# Altium footprint library PCB方案验证板  12V5A 60Wascii.PcbLib: 29 footprints (part 1 of 2)
Each footprint in its own frame and in the unit in brackets; x right, y up, seen from the top. Pads: shape width x height; smd on the part's side, far side on the other; paste and mask are expansions set on the pad; w line width, h text height; cw(c..) or ccw(c..) is an arc to the next point about the centre after c.
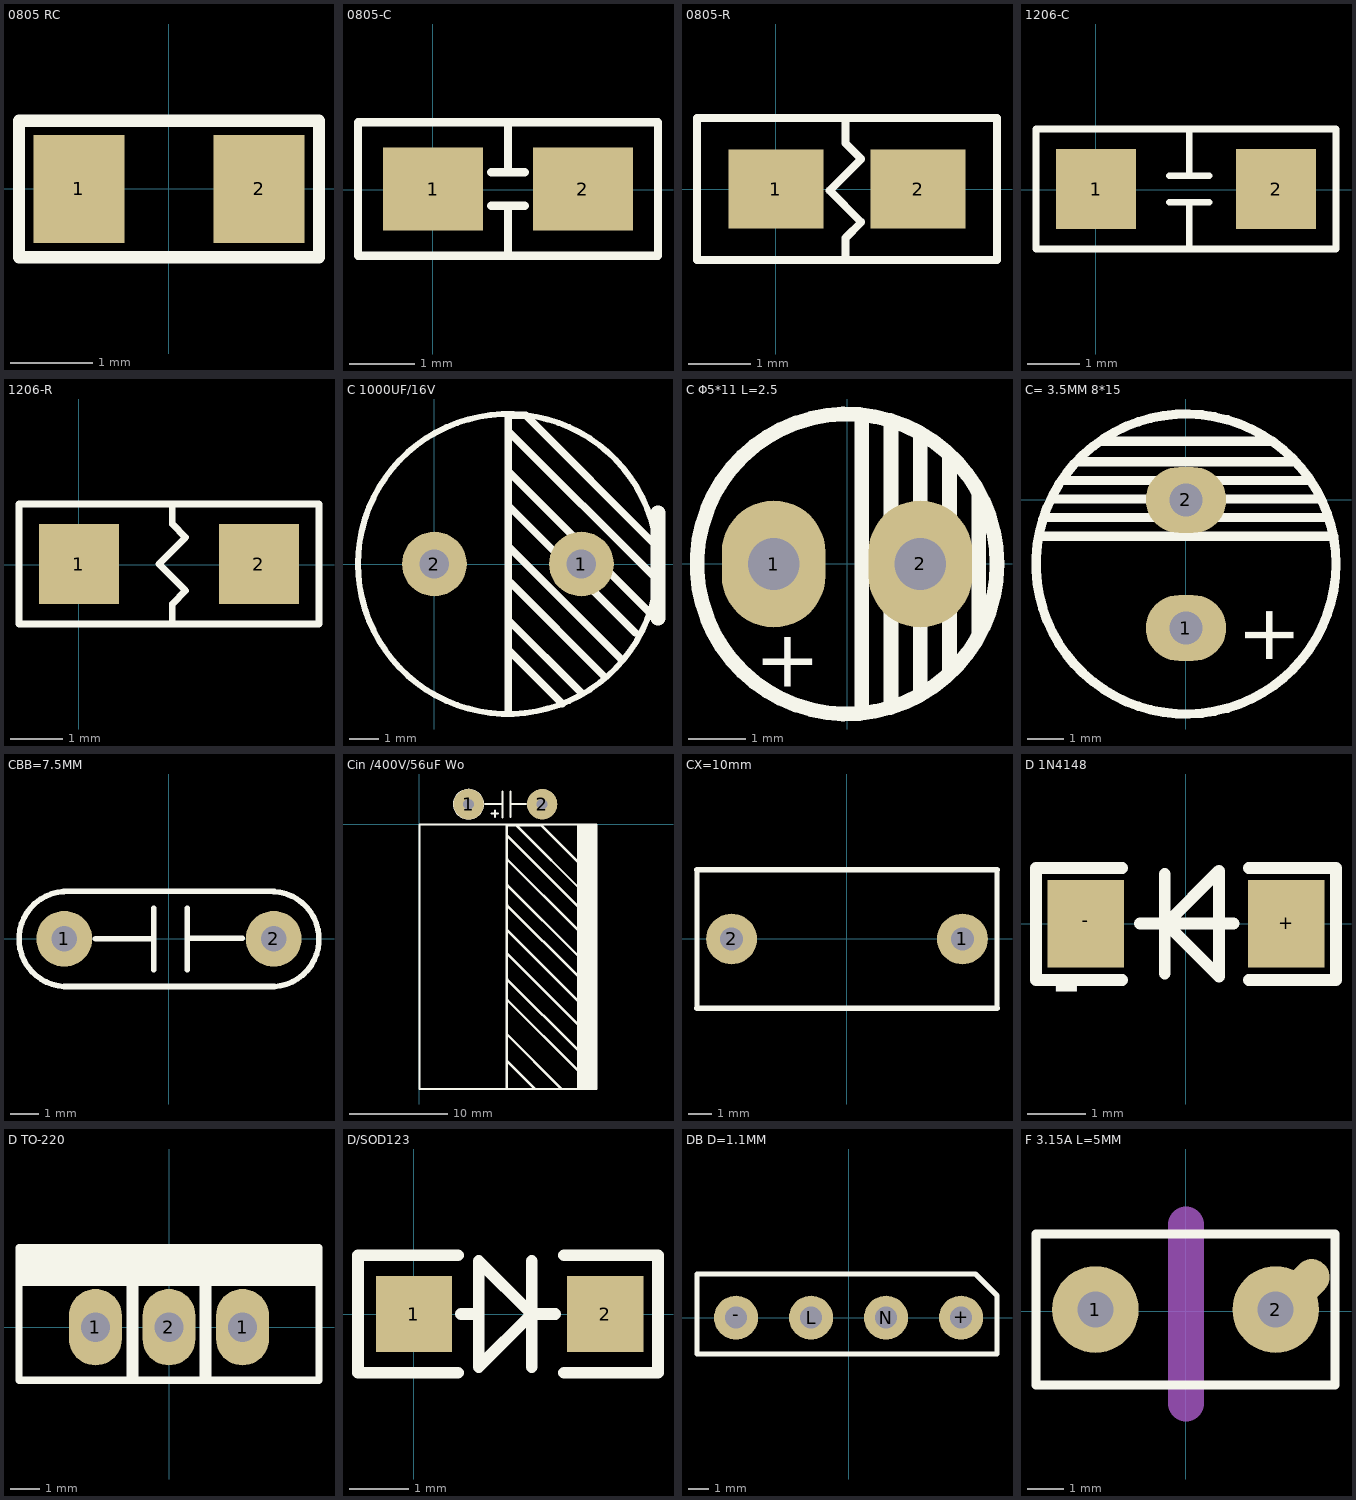
[diagram p0: the footprints below, top view; thin cyan lines are the x and y axes]

## 0805 RC [mm]
pads (2):
  rect 1.1x1.3 smd: 1(-1.088,0) 2(1.088,0)
Top Overlay:
  lines w0.15: -1.812,-0.825 1.812,-0.825 1.812,0.825 -1.812,0.825 -1.812,-0.825

## 0805-C [mil]
pads (2):
  rect 60x50 smd: 1(0.08,0.45) 2(90.08,0.45)
Top Overlay:
  lines w5: 35.08,-9.55 55.08,-9.55 ; 35.08,10.45 55.08,10.45 ; 45.08,-39.55 45.08,-9.55 ; 45.08,10.45 45.08,40.45 ; -44.92,-39.55 135.08,-39.55 135.08,40.45 -44.92,40.45 -44.92,-39.55

## 0805-R [mil]
pads (2):
  rect 60x50 smd: 1(0,0) 2(90,0)
Top Overlay:
  lines w5: 44,-44.45 44,-31 54,-21 34,-1 54,19 44,29 44,44 ; -50,-45 140,-45 140,45 -50,45 -50,-45

## 1206-C [mil]
pads (2):
  rect 60x60 smd: 1(0.08,0.45) 2(135.08,0.45)
Top Overlay:
  lines w5: 55.08,-9.55 85.08,-9.55 ; 55.08,10.45 85.08,10.45 ; 70.08,-44.55 70.08,-9.55 ; 70.08,10.45 70.08,45.45 ; -44.92,-44.55 -44.92,45.45 180.08,45.45 180.08,-44.55 -44.92,-44.55

## 1206-R [mil]
pads (2):
  rect 60x60 smd: 1(0.08,0.45) 2(135.08,0.45)
Top Overlay:
  lines w5: 70.08,-44.55 70.08,-29.55 80.08,-19.55 60.08,0.45 80.08,20.45 70.08,30.45 70.08,45.45 ; -44.92,-44.55 -44.92,45.45 180.08,45.45 180.08,-44.55 -44.92,-44.55

## C 1000UF/16V [mm]
pads (2):
  round 2.2 hole 1: 1(5,0) 2(0,0)
Top Overlay:
  circle w0.2: c2.5,0 r5.1
  lines w0.254: 2.515,-5.004 2.515,0 2.515,5.055 3.099,5.055 7.569,0.584 ; 2.515,-1.905 4.978,-4.369 ; 2.515,0.61 6.375,-3.251 ; 2.515,3.15 7.29,-1.626 ; 2.515,4.521 7.544,-0.508 ; 2.54,-2.946 4.343,-4.75 ; 2.54,1.956 6.833,-2.337 ; 2.591,-0.635 5.766,-3.81
  lines w0.5: 7.604,-1.84 7.604,1.741

## C Φ5*11 L=2.5 [mm]
pads (2):
  oval 1.8x2.2 hole 0.9: 1(-1.27,0) 2(1.27,0)
Top Overlay:
  circle w0.254: c0,0 r2.6
  lines w0.254: 0.254,-2.565 0.254,2.565 ; 0.762,-2.438 0.762,2.438 ; 1.27,-2.21 1.27,2.21 ; 1.778,-1.829 1.778,1.829 ; 2.286,-1.168 2.286,1.194
  text "+" at -0.457,-1.27 h1

## C= 3.5MM 8*15 [mm]
pads (2):
  oval 2.2x1.8 hole 0.9: 1(0,-3.5) 2(0,0)
Top Overlay:
  circle w0.254: c0,-1.75 r4.1
  lines w0.254: -4.013,-0.991 4.039,-0.988 ; -3.886,-0.48 3.835,-0.48 ; -3.658,0.025 3.683,0.028 ; -3.353,0.533 3.353,0.537 ; -2.972,1.041 2.946,1.045 ; -2.337,1.603 2.362,1.603 ; 0,-0.48 0,-0.48
  text "+" at 1.626,-2.819 h1.52

## CBB=7.5MM [mm]
pads (2):
  round 2 hole 0.9: 1(-3.75,0) 2(3.75,0)
Top Overlay:
  lines w0.2: -3.767,1.694 ccw(c-3.669,-0.008) -3.75,-1.71 3.767,-1.71 ; -3.75,1.702 3.775,1.702 ; -2.632,0 -0.626,0 ; -0.552,-1.113 -0.552,1.087 ; 0.648,-1.113 0.648,1.087 ; 0.698,0.015 2.625,0.015 ; 3.75,1.69 cw(c3.669,-0.012) 3.767,-1.714

## Cin /400V/56uF Wo [mm]
pads (2):
  round 3.1 hole 1.1: 1(5.02,2.05) 2(12.52,2.05)
Top Overlay:
  circle w0.254: c5.009,2.048 r1.451
  circle w0.254: c12.525,2.062 r1.385
  rectangle: 16.053,-27 18.045,-0.025
  lines w0.2: 6.687,2.05 8.42,2.05 ; 7.345,1.1 8.045,1.1 ; 7.72,0.75 7.72,1.425 ; 8.47,0.7 8.47,3.35 ; 9.295,0.725 9.295,3.35 ; 9.32,2.05 10.853,2.05 ; 0,-27 0,0 18.075,0 18.075,-27 0,-27
  lines w0.254: 8.915,-26.975 8.915,-0.076 12.421,-0.076 17.856,-5.512 ; 8.915,-24.13 11.722,-26.937 ; 8.915,-21.107 8.915,-21.412 14.453,-26.949 ; 8.954,-17.894 16.281,-25.222 ; 8.954,-15.811 16.281,-23.139 ; 8.954,-13.195 16.281,-20.523 ; 8.954,-10.782 16.281,-18.11 ; 8.954,-8.268 16.281,-15.596 ; 8.954,-6.185 16.281,-13.513 ; 8.954,-3.569 16.281,-10.897 ; 8.954,-1.156 16.281,-8.484 ; 9.842,-0.038 9.842,-0.064 17.17,-7.391

## CX=10mm [mm]
pads (2):
  round 2.2 hole 1: 1(5,0) 2(-5,0)
Top Overlay:
  lines w0.2: -6.5,-3 -6.5,3 ; 6.5,-3 6.5,3
  lines w0.254: -6.5,-3 6.5,-3 ; -6.5,3 6.5,3

## D 1N4148 [mm]
pads (2):
  rect 1.3x1.5 smd: +(1.713,0) -(-1.713,0)
Top Overlay:
  lines w0.2: -1.087,-0.964 -2.562,-0.964 -2.562,0.951 -1.088,0.951 ; 1.074,-0.964 2.562,-0.964 2.562,0.951 1.074,0.951
  lines w0.203: -0.787,0.006 0.813,0.006 ; -0.362,-0.85 -0.362,0.85 ; -0.362,-0.025 0.562,0.9 0.563,-0.9 -0.362,0.025
  text "-" at -2.288,-1.475 h1
Bottom Overlay:

## D TO-220 [mm]
pads (3):
  oval 1.8x2.6 hole 1: 1(-2.5,0) 1(2.5,0) 2(0,0)
Top Overlay:
  rectangle: -5.1,1.397 5.1,2.7
  lines w0.25: -5.025,1.85 5.05,1.85 ; -5.025,2.025 5,2.025 ; -5.025,2.25 5.025,2.25 ; -5.025,2.475 5.025,2.475 ; -5.1,-1.8 5.1,-1.8 5.1,2.7 -5.1,2.7 -5.1,-1.8
  lines w0.4: -1.245,-1.651 -1.245,1.956 ; 1.245,-1.727 1.245,1.88

## D/SOD123 [mm]
pads (2):
  rect 1.3x1.3 smd: 1(0,0) 2(3.248,0)
Top Overlay:
  lines w0.2: 0.748,-1 -0.952,-1 -0.952,1 0.748,1 ; 0.8,0 1.1,0 ; 2,-0.9 2,0.9 ; 2.4,0 2,0 ; 2.548,-1 4.148,-1 4.148,1 2.548,1 ; 2,0 1.1,-0.9 1.1,0.9 2,0

## DB D=1.1MM [mm]
pads (4):
  round 2.2 hole 1.1: +(5.625,0) -(-5.625,0) L(-1.875,0) N(1.875,0)
Top Overlay:
  lines w0.25: -7.576,-1.813 -7.576,2.187 6.349,2.187 7.424,1.112 7.424,-1.813 -7.576,-1.813

## F 3.15A L=5MM [mm]
pads (4):
  round 2.4 hole 1: 1(-2.512,0.05) 2(2.487,0.05)
  round 0 all layers, no hole: ""(-3.063,-0.525)
  oval 1x2.2 all layers, no hole rot 135: ""(3.063,0.525)
Top Overlay:
  lines w0.25: -4.163,-2.05 4.138,-2.05 4.138,2.15 -4.163,2.15 -4.163,-2.05
Mechanical 1:
  lines w1: 0,-2.562 0,2.413